# EAGLE library part TLV61220 (library IC_Power-Management)
Low-Input Voltage Step-Up Converter Datasheet <https://www.ti.com/lit/ds/symlink/tlv61220.pdf?ts=1593543292122&ref_url=https%253A%252F%252Fwww.google.com%252F>
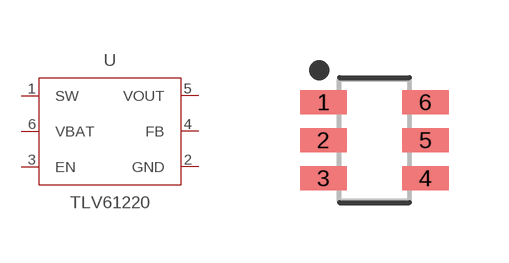
[diagram p9: symbol with the pads of SOT95P280X145-6N; footprint SOT95P280X145-6N]

Designator prefix -

## TLV61220DBVR_SOT23 (CATEGORY: IC_Power-Management; DESCRIPTION: IC REG BOOST ADJ 220MA SOT23-6; INPUT_VOLTAGE: 0.7V to 5.5V; MANUFACTURER: TI; MPN: TLV61220DBVR; OPERATING_TEMP: -40°C ~ 85°C; OUTPUT_VOLTAGE: 1.8V to 5.5V; PART_STATUS: Active; ROHS_COMPLIANT: Yes; SUB-CATEGORY: Voltage Regulator; TOPOLOGY: BOOST; TYPE: DC-DC Switching; VALUE: TLV61220), TLV61220DBVT_SOT23 (CATEGORY: IC_Power-Management; DESCRIPTION: IC REG BOOST ADJ 220MA SOT23-6; INPUT_VOLTAGE: 0.7V to 5.5V; MANUFACTURER: TI; MPN: TLV61220DBVT; OPERATING_TEMP: -40°C ~ 85°C; PART_STATUS: Active; ROHS_COMPLIANT: Yes; SUB-CATEGORY: Voltage Regulator; TOPOLOGY: BOOST; TYPE: DC-DC Switching; VALUE: TLV61220)  [SOT95P280X145-6N]
1  SW  in
2  GND  pwr
3  EN  in
4  FB  in
5  VOUT  out
6  VBAT  in

## Footprint SOT95P280X145-6N (pad centres in mm)
6-SOT23, 0.95 mm pitch, 2.80 mm span, 2.92 X 1.63 X 1.45 mm body 6-pin SOT23 package with 0.95 mm pitch, 2.80 mm span with body size 2.92 X 1.63 X 1.45 mm
smd 1.165 x 0.597: 1 -1.275,0.95; 2 -1.275,0; 3 -1.275,-0.95; 4 1.275,-0.95; 5 1.275,0; 6 1.275,0.95